# EAGLE library part GPS_FGPMMOPA6C (library adafruit_Gil)
FGPMMOPA6C 16x16 GPS Module NMEA Sentences: GGA, GSA, GSV, RMC, VTG
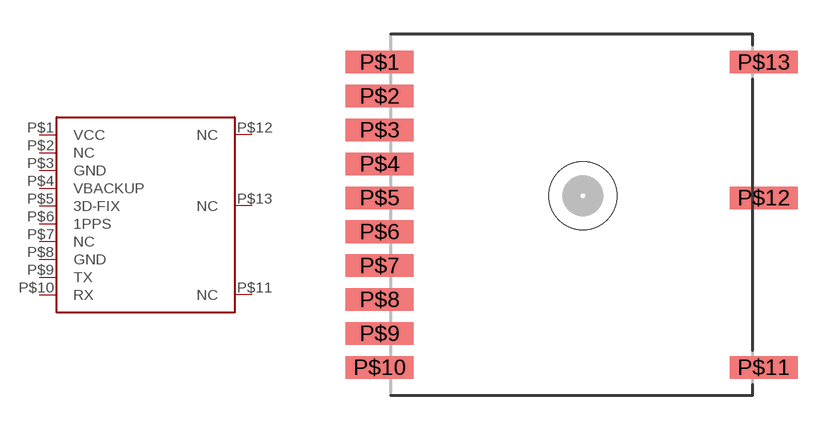
[diagram p104: symbol with the pads of FGPMMOPA6C; footprint FGPMMOPA6C]

Designator prefix U

## GPS_FGPMMOPA6C  [FGPMMOPA6C]
P$1  VCC
P$2  NC
P$3  GND
P$4  VBACKUP
P$5  3D-FIX
P$6  1PPS
P$7  NC
P$8  GND
P$9  TX
P$10  RX
P$11  NC
P$12  NC
P$13  NC

## Footprint FGPMMOPA6C (pad centres in mm)
smd 3 x 1: P$1 -8.5,6.75; P$2 -8.5,5.25; P$3 -8.5,3.75; P$4 -8.5,2.25; P$5 -8.5,0.75; P$6 -8.5,-0.75; P$7 -8.5,-2.25; P$8 -8.5,-3.75; P$9 -8.5,-5.25; P$10 -8.5,-6.75; P$11 8.5,-6.75; P$12 8.5,0.75; P$13 8.5,6.75
hole 3 at 0.5,0.85